# EAGLE library part GL850G-31 (library pimoroni)
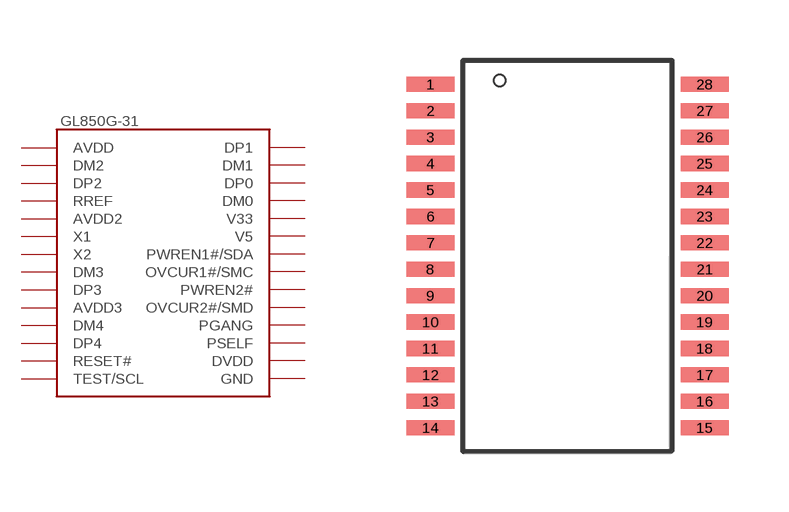
[diagram p11: symbol with the pads of TSSOP28; footprint TSSOP28]

Designator prefix -

## GL850G-31  [TSSOP28]
1  AVDD
2  DM2
3  DP2
4  RREF
5  AVDD2
6  X1
7  X2
8  DM3
9  DP3
10  AVDD3
11  DM4
12  DP4
13  RESET#
14  TEST/SCL
15  GND
16  DVDD
17  PSELF
18  PGANG
19  OVCUR2#/SMD
20  PWREN2#
21  OVCUR1#/SMC
22  PWREN1#/SDA
23  V5
24  V33
25  DM0
26  DP0
27  DM1
28  DP1

## Footprint TSSOP28 (pad centres in mm)
smd 1.2 x 0.38: 1 -3.429,4.623; 2 -3.429,3.962; 3 -3.429,3.302; 4 -3.429,2.642; 5 -3.429,1.981; 6 -3.429,1.321; 7 -3.429,0.66; 8 -3.435,0; 9 -3.429,-0.66; 10 -3.429,-1.321; 11 -3.429,-1.981; 12 -3.429,-2.642; 13 -3.429,-3.302; 14 -3.429,-3.962; 15 3.429,-3.962; 16 3.429,-3.302; 17 3.429,-2.642; 18 3.429,-1.981; 19 3.429,-1.321; 20 3.429,-0.66; 21 3.435,0; 22 3.429,0.66; 23 3.429,1.321; 24 3.429,1.981; 25 3.429,2.642; 26 3.429,3.302; 27 3.429,3.962; 28 3.429,4.623